# Altium footprint library SG__PCB_SMD_Connectors.PcbLib: 63 footprints (part 4 of 4)
Each footprint in its own frame and in the unit in brackets; x right, y up, seen from the top. Pads: shape width x height; smd on the part's side, far side on the other; paste and mask are expansions set on the pad; w line width, h text height; cw(c..) or ccw(c..) is an arc to the next point about the centre after c.
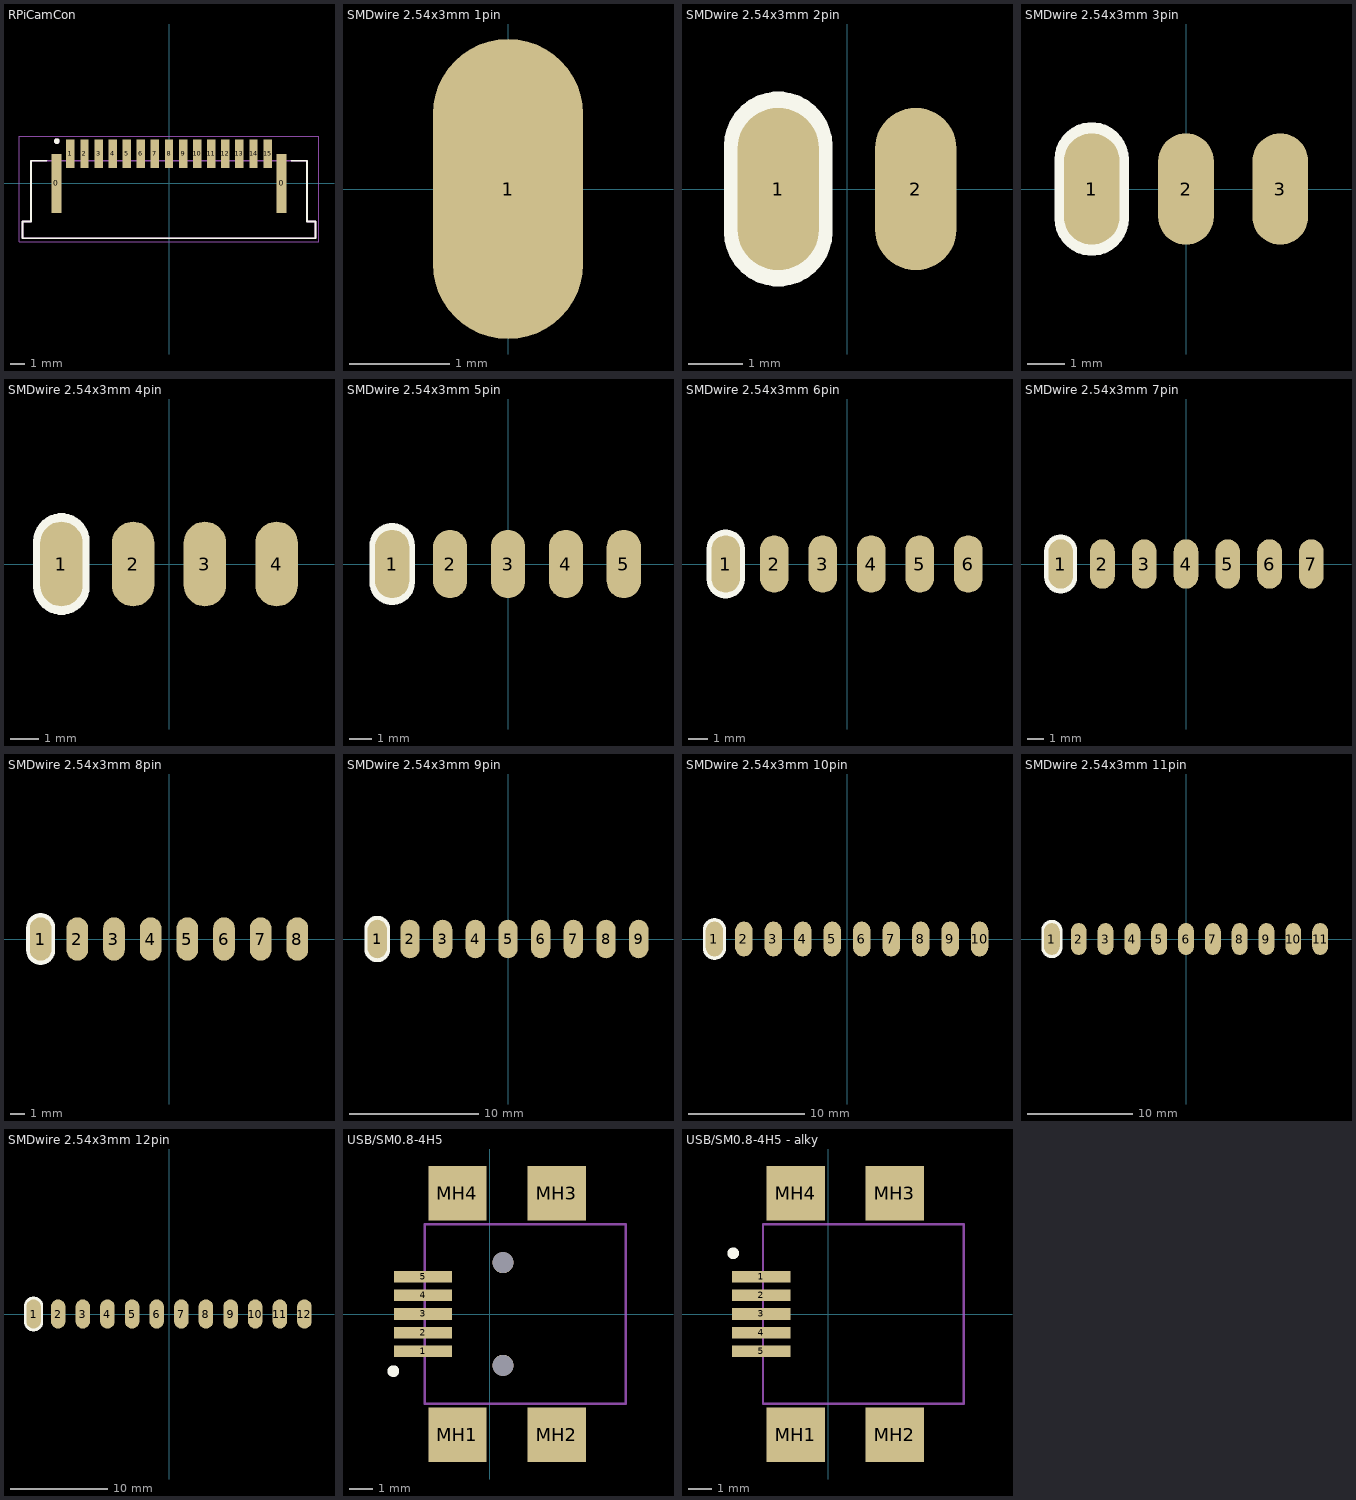
[diagram p3: the footprints below, top view; thin cyan lines are the x and y axes]

## RPiCamCon [mm] "AMPHENOL_SFW15R-2STE1LF / 1mm 15pin"
height 2.7
pads (17):
  rect 0.7x4.2 smd: 0(-8,0) 0(8,0)
  rect 0.6x2 smd: 1(-7,2.1) 2(-6,2.1) 3(-5,2.1) 4(-4,2.1) 5(-3,2.1) 6(-2,2.1) 7(-1,2.1) 8(0,2.1) 9(1,2.1) 10(2,2.1) 11(3,2.1) 12(4,2.1) 13(5,2.1) 14(6,2.1) 15(7,2.1)
Top Overlay:
  circle w0.2: c-7.96,3 r0.1
  lines w0.127: -8.7,1.6 -9.8,1.6 -9.8,-2.7 -10.4,-2.7 -10.4,-3.9 10.4,-3.9 10.4,-2.7 9.8,-2.7 9.8,1.6 8.7,1.6
Top Assembly:
  lines w0.127: -10.4,-3.9 10.4,-3.9 10.4,-2.7 9.8,-2.7 9.8,1.6 -9.8,1.6 -9.8,-2.7 -10.4,-2.7 -10.4,-3.9
Top Courtyard:
  lines w0.05: -10.65,-4.15 10.65,-4.15 10.65,3.35 -10.65,3.35 -10.65,-4.15
Mechanical 13:
  circle w0.2: c-7.96,3 r0.1
3D body "step_temp.STEP": height 2.7, standoff 0, extent -10.4,-3.9 10.4,2.6

## SMDwire 2.54x3mm 1pin [mm]
pads (1):
  oval 1.5x3 smd: 1(0,0)

## SMDwire 2.54x3mm 2pin [mm]
pads (2):
  oval 1.5x3 smd: 1(-1.27,0) 2(1.27,0)
Top Overlay:
  lines w0.4: -2.07,-0.8 ccw(c-1.27,-0.8) -0.47,-0.8 -0.47,0.8 ccw(c-1.27,0.8) -2.07,0.8 -2.07,-0.8

## SMDwire 2.54x3mm 3pin [mm]
pads (3):
  oval 1.5x3 smd: 1(-2.54,0) 2(0,0) 3(2.54,0)
Top Overlay:
  lines w0.4: -3.34,-0.8 ccw(c-2.54,-0.8) -1.74,-0.8 -1.74,0.8 ccw(c-2.54,0.8) -3.34,0.8 -3.34,-0.8

## SMDwire 2.54x3mm 4pin [mm]
pads (4):
  oval 1.5x3 smd: 1(-3.81,0) 2(-1.27,0) 3(1.27,0) 4(3.81,0)
Top Overlay:
  lines w0.4: -4.61,-0.8 ccw(c-3.81,-0.8) -3.01,-0.8 -3.01,0.8 ccw(c-3.81,0.8) -4.61,0.8 -4.61,-0.8

## SMDwire 2.54x3mm 5pin [mm]
pads (5):
  oval 1.5x3 smd: 1(-5.08,0) 2(-2.54,0) 3(0,0) 4(2.54,0) 5(5.08,0)
Top Overlay:
  lines w0.4: -5.88,-0.8 ccw(c-5.08,-0.8) -4.28,-0.8 -4.28,0.8 ccw(c-5.08,0.8) -5.88,0.8 -5.88,-0.8

## SMDwire 2.54x3mm 6pin [mm]
pads (6):
  oval 1.5x3 smd: 1(-6.35,0) 2(-3.81,0) 3(-1.27,0) 4(1.27,0) 5(3.81,0) 6(6.35,0)
Top Overlay:
  lines w0.4: -7.15,-0.8 ccw(c-6.35,-0.8) -5.55,-0.8 -5.55,0.8 ccw(c-6.35,0.8) -7.15,0.8 -7.15,-0.8

## SMDwire 2.54x3mm 7pin [mm]
pads (7):
  oval 1.5x3 smd: 1(-7.62,0) 2(-5.08,0) 3(-2.54,0) 4(0,0) 5(2.54,0) 6(5.08,0) 7(7.62,0)
Top Overlay:
  lines w0.4: -8.42,-0.8 ccw(c-7.62,-0.8) -6.82,-0.8 -6.82,0.8 ccw(c-7.62,0.8) -8.42,0.8 -8.42,-0.8

## SMDwire 2.54x3mm 8pin [mm]
pads (8):
  oval 1.5x3 smd: 1(-8.89,0) 2(-6.35,0) 3(-3.81,0) 4(-1.27,0) 5(1.27,0) 6(3.81,0) 7(6.35,0) 8(8.89,0)
Top Overlay:
  lines w0.4: -9.69,-0.8 ccw(c-8.89,-0.8) -8.09,-0.8 -8.09,0.8 ccw(c-8.89,0.8) -9.69,0.8 -9.69,-0.8

## SMDwire 2.54x3mm 9pin [mm]
pads (9):
  oval 1.5x3 smd: 1(-10.16,0) 2(-7.62,0) 3(-5.08,0) 4(-2.54,0) 5(0,0) 6(2.54,0) 7(5.08,0) 8(7.62,0) 9(10.16,0)
Top Overlay:
  lines w0.4: -10.96,-0.8 ccw(c-10.16,-0.8) -9.36,-0.8 -9.36,0.8 ccw(c-10.16,0.8) -10.96,0.8 -10.96,-0.8

## SMDwire 2.54x3mm 10pin [mm]
pads (10):
  oval 1.5x3 smd: 1(-11.43,0) 2(-8.89,0) 3(-6.35,0) 4(-3.81,0) 5(-1.27,0) 6(1.27,0) 7(3.81,0) 8(6.35,0) 9(8.89,0) 10(11.43,0)
Top Overlay:
  lines w0.4: -12.23,-0.8 ccw(c-11.43,-0.8) -10.63,-0.8 -10.63,0.8 ccw(c-11.43,0.8) -12.23,0.8 -12.23,-0.8

## SMDwire 2.54x3mm 11pin [mm]
pads (11):
  oval 1.5x3 smd: 1(-12.7,0) 2(-10.16,0) 3(-7.62,0) 4(-5.08,0) 5(-2.54,0) 6(0,0) 7(2.54,0) 8(5.08,0) 9(7.62,0) 10(10.16,0) 11(12.7,0)
Top Overlay:
  lines w0.4: -13.5,-0.8 ccw(c-12.7,-0.8) -11.9,-0.8 -11.9,0.8 ccw(c-12.7,0.8) -13.5,0.8 -13.5,-0.8

## SMDwire 2.54x3mm 12pin [mm]
pads (12):
  oval 1.5x3 smd: 1(-13.97,0) 2(-11.43,0) 3(-8.89,0) 4(-6.35,0) 5(-3.81,0) 6(-1.27,0) 7(1.27,0) 8(3.81,0) 9(6.35,0) 10(8.89,0) 11(11.43,0) 12(13.97,0)
Top Overlay:
  lines w0.4: -14.77,-0.8 ccw(c-13.97,-0.8) -13.17,-0.8 -13.17,0.8 ccw(c-13.97,0.8) -14.77,0.8 -14.77,-0.8

## USB/SM0.8-4H5 [mm]
pads (11):
  rect 2.5x0.5 smd: 1(-2.862,-1.6) 2(-2.862,-0.8) 3(-2.862,0) 4(-2.862,0.8) 5(-2.862,1.6)
  rect 2.5x2.35 smd: MH1(-1.388,-5.175) MH2(2.863,-5.175) MH3(2.863,5.175) MH4(-1.388,5.175)
  round 0.9 hole 0.9: ""(0.563,-2.2) ""(0.563,2.2)
Top Overlay:
  circle w0.25: c-4.136,-2.448 r0.125
Mechanical 13:
  lines w0.1: -2.788,-3.85 -2.788,3.85 5.813,3.85 5.813,-3.85 -2.788,-3.85
3D body "USBminiAB.stp": height 3.95, standoff 0, extent -2.487,-4.95 6.513,4.95

## USB/SM0.8-4H5 - alky [mm]
pads (9):
  rect 2.5x0.5 smd: 1(-2.862,1.6) 2(-2.862,0.8) 3(-2.862,0) 4(-2.862,-0.8) 5(-2.862,-1.6)
  rect 2.5x2.35 smd: MH1(-1.388,-5.175) MH2(2.863,-5.175) MH3(2.863,5.175) MH4(-1.388,5.175)
Top Overlay:
  circle w0.25: c-4.062,2.6 r0.125
Mechanical 13:
  lines w0.1: -2.788,-3.85 5.813,-3.85 5.813,3.85 -2.788,3.85 -2.788,-3.85
3D body "USBminiAB.stp": height 3.95, standoff 0, extent -2.487,-4.95 6.513,4.95